# Altium footprint library 4.0inch_LCD_PCB_Package_library.PcbLib: 1 footprints
Each footprint in its own frame and in the unit in brackets; x right, y up, seen from the top. Pads: shape width x height; smd on the part's side, far side on the other; paste and mask are expansions set on the pad; w line width, h text height; cw(c..) or ccw(c..) is an arc to the next point about the centre after c.
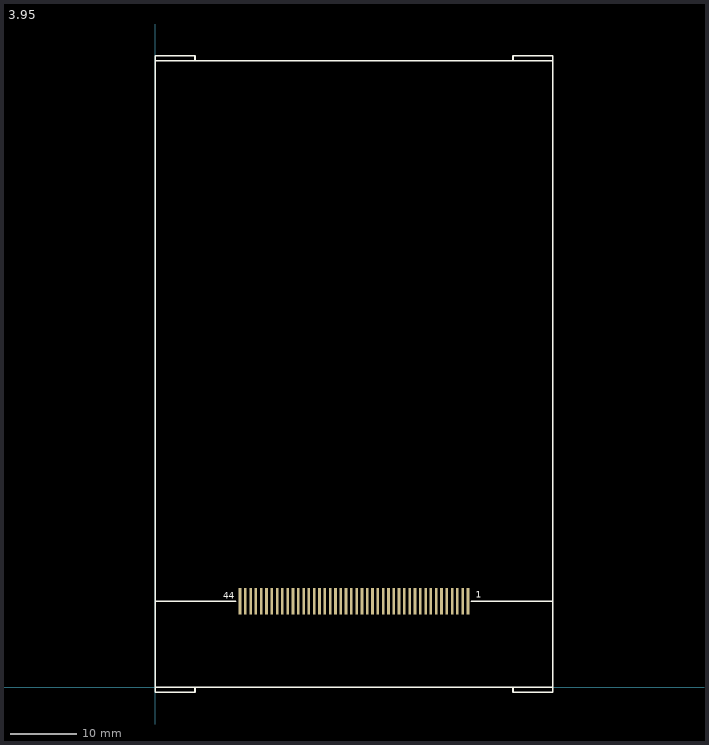
[diagram p0: the footprint, top view; thin cyan lines are the x and y axes]

## 3.95 [mm]
pads (44):
  rect 0.4x4 smd: 1(47.2,12.98) 2(46.4,12.98) 3(45.6,12.98) 4(44.8,12.98) 5(44,12.98) 6(43.2,12.98) 7(42.4,12.98) 8(41.6,12.98) 9(40.8,12.98) 10(40,12.98) 11(39.2,12.98) 12(38.4,12.98) 13(37.6,12.98) 14(36.8,12.98) 15(36,12.98) 16(35.2,12.98) 17(34.4,12.98) 18(33.6,12.98) 19(32.8,12.98) 20(32,12.98) 21(31.2,12.98) 22(30.4,12.98) 23(29.6,12.98) 24(28.8,12.98) 25(28,12.98) 26(27.2,12.98) 27(26.4,12.98) 28(25.6,12.98) 29(24.8,12.98) 30(24,12.98) 31(23.2,12.98) 32(22.4,12.98) 33(21.6,12.98) 34(20.8,12.98) 35(20,12.98) 36(19.2,12.98) 37(18.4,12.98) 38(17.6,12.98) 39(16.8,12.98) 40(16,12.98) 41(15.2,12.98) 42(14.4,12.98) 43(13.6,12.98) 44(12.8,12.98)
Top Overlay:
  lines w0.254: 0,12.98 12.139,12.98 ; 6,0 6,-0.75 0,-0.75 0,0 ; 6,94.5 6,95.25 0,95.25 0,94.5 ; 47.681,12.98 60,12.98 ; 54,0 54,-0.75 60,-0.75 60,0 ; 54,94.5 54,95.25 60,95.25 60,94.5 ; 0,0 60,0 ; 0,0 0,94.5 ; 0,94.5 60,94.5 ; 60,0 60,94.5
  text "1" at 48.343,13.462 h1.02
  text "44" at 10.287,13.335 h1.02